# Altium schematic symbol library 10cx105.SchLib: 4 symbols (part 2 of 2)
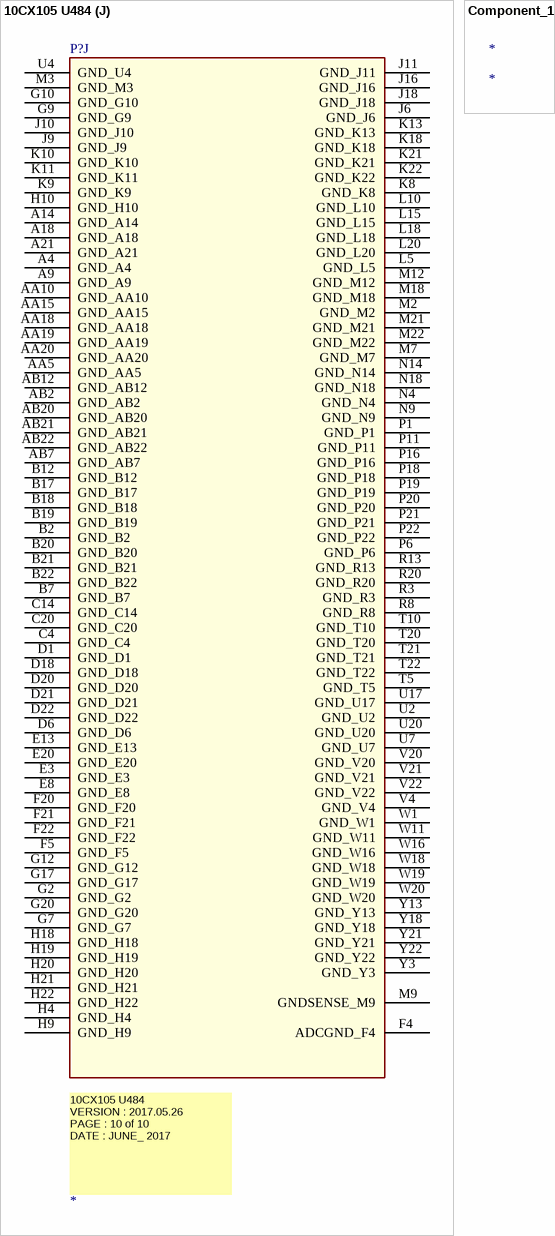
[diagram p12: symbols 10CX105 U484 to Component_1]

## 10CX105 U484
designator P?
SPLIT_INST: TRUE; SWAP_INFO: (S1+S2+S3+S4+S5+S6+S7+S8+S9+S10)
part A pins: C9 VCCIO2L_C9 (power), D11 VCCIO2L_D11 (power), D16 VCCIO2K_D16 (power), F10 VCCIO2L_F10 (power), F15 VCCIO2K_F15 (power), H14 VCCIO2K_H14 (power), J1 VCCIO3B_J1 (power), J8 VCCPT_J8 (power), J12 VCC_J12 (power), J13 VCC_J13 (power), J14 VCCPT_J14 (power), J19 VCCR_GXBL1C_J19 (power), J20 VCCR_GXBL1C_J20 (power), K2 VCCIO3B_K2 (power), K3 VCCIO3B_K3 (power), K6 VCC_K6 (power), K12 VCCP_K12 (power), K14 VCCP_K14 (power), K15 VCC_K15 (power), K16 VCC_K16 (power), L6 VCC_L6 (power), L7 VCC_L7 (power), L8 VCC_L8 (power), L9 VCC_L9 (power), L11 VCC_L11 (power), L12 VCC_L12 (power), L13 VCC_L13 (power), L14 VCC_L14 (power), L16 VCC_L16 (power), L19 VCCH_GXBL_L19 (power), M6 VCC_M6 (power), M8 VCCLSENSE_M8 (power), M10 VCC_M10 (power), M11 VCCA_PLL_M11 (power), M13 VCCA_PLL_M13 (power), M14 VCC_M14 (power), M15 VCC_M15 (power), M16 VCC_M16 (power), N6 VCC_N6 (power), N7 VCC_N7 (power), N8 VCCERAM_N8 (power), N10 VCC_N10 (power), N11 VCC_N11 (power), N12 VCC_N12 (power), N13 VCC_N13 (power), N15 VCCERAM_N15 (power), N16 VCC_N16 (power), N19 VCCT_GXBL1C_N19 (power), N20 VCCT_GXBL1C_N20 (power), P7 VCC_P7 (power), P8 VCC_P8 (power), P9 VCC_P9 (power), P10 VCC_P10 (power), P12 VCCP_P12 (power), P13 VCC_P13 (power), P14 VCCP_P14 (power), P15 VCC_P15 (power), R6 VCC_R6 (power), R7 VCC_R7 (power), R9 VCCPT_R9 (power), R11 VCC_R11 (power), R12 VCC_R12 (power), R14 VCCPT_R14 (power), R15 VCC_R15 (power), R16 VCC_R16 (power), T8 VCCBAT_T8 (power), T9 VCCPGM_T9 (power), T15 VCCIO2J_T15 (power), U9 VCCPGM_U9 (power), U12 VCCIO2J_U12 (power), V9 VCCIO2A_V9 (power), V14 VCCIO2J_V14 (power), W6 VCCIO2A_W6 (power), Y8 VCCIO2A_Y8 (power)
part B pins: A8 IO_2L_28_A8/PLL_2L_CLKOUT1P,PLL_2L_CLKOUT1,PLL_2L_FB1/DQS3 (io), AA16 IO_2J_28_AA16/PLL_2J_CLKOUT1P,PLL_2J_CLKOUT1,PLL_2J_FB1/LVDS2J_10P/DQS19 (io), B8 IO_2L_29_B8/PLL_2L_CLKOUT1N/DQSN3 (io), C2 IO_2L_18_C2/PLL_2L_CLKOUT0P,PLL_2L_CLKOUT0,PLL_2L_FB0/DQ4 (io), C18 IO_2K_29_C18/PLL_2K_CLKOUT1N/LVDS2K_10N/DQSN11 (io), C19 IO_2K_28_C19/PLL_2K_CLKOUT1P,PLL_2K_CLKOUT1,PLL_2K_FB1/LVDS2K_10P/DQS11 (io), D2 IO_2L_19_D2/PLL_2L_CLKOUT0N/DQ4 (io), G18 IO_2K_18_G18/PLL_2K_CLKOUT0P,PLL_2K_CLKOUT0,PLL_2K_FB0/LVDS2K_15P/DQ12 (io), H17 IO_2K_19_H17/PLL_2K_CLKOUT0N/LVDS2K_15N/DQ12 (io), W14 IO_2J_19_W14/PLL_2J_CLKOUT0N/LVDS2J_15N/DQ20 (io), Y14 IO_2J_18_Y14/PLL_2J_CLKOUT0P,PLL_2J_CLKOUT0,PLL_2J_FB0/LVDS2J_15P/DQ20 (io), Y16 IO_2J_29_Y16/PLL_2J_CLKOUT1N/LVDS2J_10N/DQSN19 (io)
part C pins: A1 IO_2L_12_A1/DQ5 (io), A2 IO_2L_13_A2/DQ5 (io), A3 IO_2L_10_A3/DQ6 (io), A5 IO_2L_8_A5/DQS6 (io), A7 IO_2L_27_A7/DQ3 (io), A10 IO_2L_33_A10/DQSN2 (io), A11 IO_2L_32_A11/DQS2 (io), B1 IO_2L_16_B1/DQS5 (io), B3 IO_2L_11_B3/DQ6 (io), B4 IO_2L_9_B4/DQSN6 (io), B5 IO_2L_1_B5/DQ7 (io), B6 IO_2L_5_B6/DQSN7 (io), B9 IO_2L_34_B9/DQ2 (io), C1 IO_2L_17_C1/DQSN5 (io), C5 IO_2L_0_C5/DQ7 (io), C6 IO_2L_4_C6/DQS7 (io), C7 IO_2L_7_C7/DQ6 (io), C8 IO_2L_35_C8/DQ2 (io), C10 IO_2L_31_C10/DQ2 (io), C11 IO_2L_30_C11/DQ2 (io), D7 IO_2L_6_D7/DQ6 (io), D8 IO_2L_46_D8/DQ0 (io), D9 IO_2L_47_D9/DQ0 (io), D10 IO_2L_45_D10/DQSN0 (io), D12 IO_2L_38_D12/DQ1 (io), E1 IO_2L_21_E1/DQSN4 (io), E2 IO_2L_14_E2/DQ5 (io), E7 IO_2L_3_E7/DQ7 (io), E9 IO_2L_40_E9/DQS1 (io), E10 IO_2L_44_E10/DQS0 (io), E11 IO_2L_42_E11/DQ0 (io), E12 IO_2L_39_E12/DQ1 (io), F1 IO_2L_20_F1/DQS4 (io), F2 IO_2L_15_F2/DQ5 (io), F8 IO_2L_2_F8/DQ7 (io), F9 IO_2L_41_F9/DQSN1 (io), F11 IO_2L_43_F11/DQ0 (io), G11 IO_2L_36_G11/DQ1 (io), H11 IO_2L_37_H11/DQ1 (io)
part D pins: A12 IO_2K_6_A12/LVDS2K_21P/DQ14 (io), A13 IO_2K_7_A13/LVDS2K_21N/DQ14 (io), A15 IO_2K_5_A15/LVDS2K_22N/DQSN15 (io), A16 IO_2K_35_A16/LVDS2K_7N/DQ10 (io), A17 IO_2K_34_A17/LVDS2K_7P/DQ10 (io), B13 IO_2K_9_B13/LVDS2K_20N/DQSN14 (io), B14 IO_2K_4_B14/LVDS2K_22P/DQS15 (io), B16 IO_2K_31_B16/LVDS2K_9N/DQ10 (io), C12 IO_2K_2_C12/LVDS2K_23P/DQ15 (io), C13 IO_2K_8_C13/LVDS2K_20P/DQS14 (io), C16 IO_2K_30_C16/LVDS2K_9P/DQ10 (io), C17 IO_2K_33_C17/LVDS2K_8N/DQSN10 (io), D13 IO_2K_3_D13/LVDS2K_23N/DQ15 (io), D14 IO_2K_11_D14/LVDS2K_19N/DQ14 (io), D15 IO_2K_44_D15/LVDS2K_2P/DQS8 (io), D17 IO_2K_32_D17/LVDS2K_8P/DQS10 (io), D19 IO_2K_27_D19/LVDS2K_11N/DQ11 (io), E14 IO_2K_10_E14/LVDS2K_19P/DQ14 (io), E15 IO_2K_45_E15/LVDS2K_2N/DQSN8 (io), E16 IO_2K_43_E16/LVDS2K_3N/DQ8 (io), E17 IO_2K_21_E17/LVDS2K_14N/DQSN12 (io), E18 IO_2K_20_E18/LVDS2K_14P/DQS12 (io), F13 IO_2K_1_F13/LVDS2K_24N/DQ15 (io), F14 IO_2K_39_F14/LVDS2K_5N/DQ9 (io), F16 IO_2K_42_F16/LVDS2K_3P/DQ8 (io), F17 IO_2K_14_F17/LVDS2K_17P/DQ13 (io), F18 IO_2K_15_F18/LVDS2K_17N/DQ13 (io), F19 IO_2K_17_F19/LVDS2K_16N/DQSN13 (io), G13 IO_2K_0_G13/LVDS2K_24P/DQ15 (io), G14 IO_2K_38_G14/LVDS2K_5P/DQ9 (io), G15 IO_2K_47_G15/LVDS2K_1N/DQ8 (io), G16 IO_2K_46_G16/LVDS2K_1P/DQ8 (io), G19 IO_2K_16_G19/LVDS2K_16P/DQS13 (io), H12 IO_2K_36_H12/LVDS2K_6P/DQ9 (io), H13 IO_2K_37_H13/LVDS2K_6N/DQ9 (io), H15 IO_2K_40_H15/LVDS2K_4P/DQS9 (io), H16 IO_2K_41_H16/LVDS2K_4N/DQSN9 (io), L17 IO_2K_12_L17/LVDS2K_18P/DQ13 (io), M17 IO_2K_13_M17/LVDS2K_18N/DQ13 (io)
part E pins: AA11 IO_2J_17_AA11/LVDS2J_16N/DQSN21 (io), AA12 IO_2J_16_AA12/LVDS2J_16P/DQS21 (io), AA13 IO_2J_20_AA13/LVDS2J_14P/DQS20 (io), AA14 IO_2J_13_AA14/LVDS2J_18N/DQ21 (io), AA17 IO_2J_34_AA17/LVDS2J_7P/DQ18 (io), AB13 IO_2J_21_AB13/LVDS2J_14N/DQSN20 (io), AB14 IO_2J_12_AB14/LVDS2J_18P/DQ21 (io), AB16 IO_2J_27_AB16/LVDS2J_11N/DQ19 (io), N17 IO_2J_5_N17/LVDS2J_22N/DQSN23 (io), P17 IO_2J_4_P17/LVDS2J_22P/DQS23 (io), R17 IO_2J_0_R17/LVDS2J_24P/DQ23 (io), R18 IO_2J_8_R18/LVDS2J_20P/DQS22 (io), R19 IO_2J_9_R19/LVDS2J_20N/DQSN22 (io), T14 IO_2J_39_T14/LVDS2J_5N/DQ17 (io), T16 IO_2J_45_T16/LVDS2J_2N/DQSN16 (io), T17 IO_2J_1_T17/LVDS2J_24N/DQ23 (io), T18 IO_2J_11_T18/LVDS2J_19N/DQ22 (io), T19 IO_2J_6_T19/LVDS2J_21P/DQ22 (io), U13 IO_2J_37_U13/LVDS2J_6N/DQ17 (io), U14 IO_2J_36_U14/LVDS2J_6P/DQ17 (io), U15 IO_2J_38_U15/LVDS2J_5P/DQ17 (io), U16 IO_2J_44_U16/LVDS2J_2P/DQS16 (io), U18 IO_2J_10_U18/LVDS2J_19P/DQ22 (io), U19 IO_2J_7_U19/LVDS2J_21N/DQ22 (io), V12 IO_2J_41_V12/LVDS2J_4N/DQSN17 (io), V13 IO_2J_40_V13/LVDS2J_4P/DQS17 (io), V15 IO_2J_30_V15/LVDS2J_9P/DQ18 (io), V16 IO_2J_31_V16/LVDS2J_9N/DQ18 (io), V17 IO_2J_33_V17/LVDS2J_8N/DQSN18 (io), V18 IO_2J_2_V18/LVDS2J_23P/DQ23 (io), V19 IO_2J_3_V19/LVDS2J_23N/DQ23 (io), W10 IO_2J_15_W10/LVDS2J_17N/DQ21 (io), W12 IO_2J_43_W12/LVDS2J_3N/DQ16 (io), W13 IO_2J_42_W13/LVDS2J_3P/DQ16 (io), W17 IO_2J_32_W17/LVDS2J_8P/DQS18 (io), Y10 IO_2J_14_Y10/LVDS2J_17P/DQ21 (io), Y11 IO_2J_47_Y11/LVDS2J_1N/DQ16 (io), Y12 IO_2J_46_Y12/LVDS2J_1P/DQ16 (io), Y17 IO_2J_35_Y17/LVDS2J_7N/DQ18 (io)
part F pins: AB6 IO_2A_12_AB6/LVDS2A_18P/DQ29 (io), AB9 IO_2A_11_AB9/LVDS2A_19N/DQ30 (io), V11 IO_2A_7_V11/LVDS2A_21N/DQ30 (io), Y9 IO_2A_9_Y9/LVDS2A_20N/DQSN30 (io)
part G pins: A6 IO_2L_26_A6/RZQ_2L/DQ3 (io), AB10 IO_2J_22_AB10/CLK_2J_0P/LVDS2J_13P/DQ20 (io), AB11 IO_2J_23_AB11/CLK_2J_0N/LVDS2J_13N/DQ20 (io), AB15 IO_2J_26_AB15/RZQ_2J/LVDS2J_11P/DQ19 (io), B10 IO_2L_24_B10/CLK_2L_1P/DQ3 (io), B11 IO_2L_25_B11/CLK_2L_1N/DQ3 (io), B15 IO_2K_24_B15/CLK_2K_1P/LVDS2K_12P/DQ11 (io), C3 IO_2L_23_C3/CLK_2L_0N/DQ4 (io), C15 IO_2K_25_C15/CLK_2K_1N/LVDS2K_12N/DQ11 (io), D3 IO_2L_22_D3/CLK_2L_0P/DQ4 (io), E19 IO_2K_26_E19/RZQ_2K/LVDS2K_11P/DQ11 (io), F3 VREFN_ADC_F3 (io), F12 VREFB2LN0_2L_F12 (io), G3 VREFP_ADC_G3 (io), H2 VREFB3BN0_3B_H2 (io), J15 VREFB2KN0_2K_J15 (io), J17 IO_2K_22_J17/CLK_2K_0P/LVDS2K_13P/DQ12 (io), K17 IO_2K_23_K17/CLK_2K_0N/LVDS2K_13N/DQ12 (io), T7 VREFB2AN0_2A_T7 (io), T13 VREFB2JN0_2J_T13 (io), W15 IO_2J_25_W15/CLK_2J_1N/LVDS2J_12N/DQ19 (io), Y15 IO_2J_24_Y15/CLK_2J_1P/LVDS2J_12P/DQ19 (io)
part H pins: AA1 IO_2A_34_AA1/DATA13/LVDS2A_7P/DQ26 (io), AA2 IO_2A_27_AA2/NCEO/LVDS2A_11N/DQ27 (io), AA4 IO_2A_21_AA4/DATA24/LVDS2A_14N/DQSN28 (io), AA6 IO_2A_13_AA6/CLKUSR/LVDS2A_18N/DQ29 (io), AA7 IO_2A_43_AA7/DATA4/LVDS2A_3N/DQ24 (io), AA8 IO_2A_42_AA8/DATA5/LVDS2A_3P/DQ24 (io), AB1 IO_2A_35_AB1/DATA12/LVDS2A_7N/DQ26 (io), AB3 IO_2A_20_AB3/DATA25/LVDS2A_14P/DQS28 (io), AB4 IO_2A_15_AB4/DATA30/LVDS2A_17N/DQ29 (io), AB5 IO_2A_14_AB5/DATA31/LVDS2A_17P/DQ29 (io), AB8 IO_2A_10_AB8/NPERSTL0/LVDS2A_19P/DQ30 (io), L1 NSTATUS (io), L2 NCSO2 (io), L3 TMS (io), L4 TRST (io), M1 CONF_DONE (io), M4 TDI (io), M5 TDO (io), N1 NCSO1 (io), N2 AS_DATA1 (io), N3 MSEL1 (io), N5 MSEL2 (io), P2 AS_DATA2 (io), P3 MSEL0 (io), P5 TCK (io), R1 IO_2A_30_R1/DATA17/LVDS2A_9P/DQ26 (io), R2 AS_DATA0,ASDO (io), R5 NCE (io), R10 IO_2A_3_R10/INIT_DONE/LVDS2A_23N/DQ31 (io), T1 IO_2A_31_T1/DATA16/LVDS2A_9N/DQ26 (io), T2 DCLK (io), T3 NIO_PULLUP (io), T6 IO_2A_37_T6/DATA10/LVDS2A_6N/DQ25 (io), T11 IO_2A_2_T11/DEV_OE/LVDS2A_23P/DQ31 (io), T12 IO_2A_5_T12/CVP_CONFDONE/LVDS2A_22N/DQSN31 (io), U1 IO_2A_24_U1/CLK_2A_1P/DATA21/LVDS2A_12P/DQ27 (io), U3 IO_2A_22_U3/CLK_2A_0P/DATA23/LVDS2A_13P/DQ28 (io), U5 NCONFIG (io), U6 IO_2A_36_U6/DATA11/LVDS2A_6P/DQ25 (io), U8 IO_2A_38_U8/DATA9/LVDS2A_5P/DQ25 (io), V1 IO_2A_25_V1/CLK_2A_1N/DATA20/LVDS2A_12N/DQ27 (io), V2 IO_2A_33_V2/DATA14/LVDS2A_8N/DQSN26 (io), V3 IO_2A_23_V3/CLK_2A_0N/DATA22/LVDS2A_13N/DQ28 (io), V5 AS_DATA3 (io), V6 IO_2A_46_V6/DATA1/LVDS2A_1P/DQ24 (io), V7 IO_2A_47_V7/DATA0/LVDS2A_1N/DQ24 (io), V8 IO_2A_39_V8/DATA8/LVDS2A_5N/DQ25 (io), V10 IO_2A_1_V10/CRC_ERROR/LVDS2A_24N/DQ31 (io), W2 IO_2A_32_W2/DATA15/LVDS2A_8P/DQS26 (io), W3 IO_2A_19_W3/PLL_2A_CLKOUT0N/DATA26/LVDS2A_15N/DQ28 (io), W4 IO_2A_18_W4/PLL_2A_CLKOUT0P,PLL_2A_CLKOUT0,PLL_2A_FB0/DATA27/LVDS2A_15P/DQ28 (io), W5 NCSO0 (io), W7 IO_2A_40_W7/DATA7/LVDS2A_4P/DQS25 (io), W8 IO_2A_41_W8/DATA6/LVDS2A_4N/DQSN25 (io), W9 IO_2A_0_W9/DEV_CLRN/LVDS2A_24P/DQ31 (io), Y1 IO_2A_29_Y1/PLL_2A_CLKOUT1N/DATA18/LVDS2A_10N/DQSN27 (io), Y2 IO_2A_28_Y2/PLL_2A_CLKOUT1P,PLL_2A_CLKOUT1,PLL_2A_FB1/DATA19/LVDS2A_10P/DQS27 (io), Y4 IO_2A_16_Y4/DATA29/LVDS2A_16P/DQS29 (io), Y5 IO_2A_17_Y5/DATA28/LVDS2A_16N/DQSN29 (io), Y6 IO_2A_45_Y6/DATA2/LVDS2A_2N/DQSN24 (io), Y7 IO_2A_44_Y7/DATA3/LVDS2A_2P/DQS24 (io)
part I pins: A19 GXBL1C_RX_CH5N,GXBL1C_REFCLK5N_1C_A19 (io), A20 GXBL1C_RX_CH5P,GXBL1C_REFCLK5P_1C_A20 (io), A22 RREF_TL_A22 (io), AA3 NC_AA3 (io), AA9 NC_AA9 (io), AA21 GXBL1C_TX_CH0N_1C_AA21 (io), AA22 GXBL1C_TX_CH0P_1C_AA22 (io), AB17 DNU_AB17 (io), AB18 DNU_AB18 (io), AB19 RREF_BL_AB19 (io), C21 GXBL1C_TX_CH5N_1C_C21 (io), C22 GXBL1C_TX_CH5P_1C_C22 (io), D4 VSIGP_0_D4 (io), D5 VSIGN_0_D5 (io), E4 TEMPDIODEN_E4 (io), E5 TEMPDIODEP_E5 (io), E6 VSIGP_1_E6 (io), E21 GXBL1C_RX_CH4N,GXBL1C_REFCLK4N_1C_E21 (io), E22 GXBL1C_RX_CH4P,GXBL1C_REFCLK4P_1C_E22 (io), F6 NC_F6 (io), F7 VSIGN_1_F7 (io), G1 NC_G1 (io), G4 NC_G4 (io), G5 NC_G5 (io), G6 NC_G6 (io), G8 NC_G8 (io), G21 GXBL1C_TX_CH4N_1C_G21 (io), G22 GXBL1C_TX_CH4P_1C_G22 (io), H1 NC_H1 (io), H3 NC_H3 (io), H5 NC_H5 (io), H6 NC_H6 (io), H7 NC_H7 (io), H8 NC_H8 (io), J2 NC_J2 (io), J3 NC_J3 (io), J4 NC_J4 (io), J5 NC_J5 (io), J7 NC_J7 (io), J21 GXBL1C_RX_CH3N,GXBL1C_REFCLK3N_1C_J21 (io), J22 GXBL1C_RX_CH3P,GXBL1C_REFCLK3P_1C_J22 (io), K1 NC_K1 (io), K4 NC_K4 (io), K5 NC_K5 (io), K7 NC_K7 (io), K19 REFCLK_GXBL1C_CHTN_1C_K19 (io), K20 REFCLK_GXBL1C_CHTP_1C_K20 (io), L21 GXBL1C_TX_CH3N_1C_L21 (io), L22 GXBL1C_TX_CH3P_1C_L22 (io), M19 REFCLK_GXBL1C_CHBN_1C_M19 (io), M20 REFCLK_GXBL1C_CHBP_1C_M20 (io), N21 GXBL1C_RX_CH2N,GXBL1C_REFCLK2N_1C_N21 (io), N22 GXBL1C_RX_CH2P,GXBL1C_REFCLK2P_1C_N22 (io), P4 DNU_P4 (io), R4 DNU_R4 (io), R21 GXBL1C_TX_CH2N_1C_R21 (io), R22 GXBL1C_TX_CH2P_1C_R22 (io), T4 DNU_T4 (io), U10 NC_U10 (io), U11 NC_U11 (io), U21 GXBL1C_RX_CH1N,GXBL1C_REFCLK1N_1C_U21 (io), U22 GXBL1C_RX_CH1P,GXBL1C_REFCLK1P_1C_U22 (io), W21 GXBL1C_TX_CH1N_1C_W21 (io), W22 GXBL1C_TX_CH1P_1C_W22 (io), Y19 GXBL1C_RX_CH0N,GXBL1C_REFCLK0N_1C_Y19 (io), Y20 GXBL1C_RX_CH0P,GXBL1C_REFCLK0P_1C_Y20 (io)
part J pins: A4 GND_A4 (power), A9 GND_A9 (power), A14 GND_A14 (power), A18 GND_A18 (power), A21 GND_A21 (power), AA5 GND_AA5 (power), AA10 GND_AA10 (power), AA15 GND_AA15 (power), AA18 GND_AA18 (power), AA19 GND_AA19 (power), AA20 GND_AA20 (power), AB2 GND_AB2 (power), AB7 GND_AB7 (power), AB12 GND_AB12 (power), AB20 GND_AB20 (power), AB21 GND_AB21 (power), AB22 GND_AB22 (power), B2 GND_B2 (power), B7 GND_B7 (power), B12 GND_B12 (power), B17 GND_B17 (power), B18 GND_B18 (power), B19 GND_B19 (power), B20 GND_B20 (power), B21 GND_B21 (power), B22 GND_B22 (power), C4 GND_C4 (power), C14 GND_C14 (power), C20 GND_C20 (power), D1 GND_D1 (power), D6 GND_D6 (power), D18 GND_D18 (power), D20 GND_D20 (power), D21 GND_D21 (power), D22 GND_D22 (power), E3 GND_E3 (power), E8 GND_E8 (power), E13 GND_E13 (power), E20 GND_E20 (power), F4 ADCGND_F4 (power), F5 GND_F5 (power), F20 GND_F20 (power), F21 GND_F21 (power), F22 GND_F22 (power), G2 GND_G2 (power), G7 GND_G7 (power), G9 GND_G9 (power), G10 GND_G10 (power), G12 GND_G12 (power), G17 GND_G17 (power), G20 GND_G20 (power), H4 GND_H4 (power), H9 GND_H9 (power), H10 GND_H10 (power), H18 GND_H18 (power), H19 GND_H19 (power), H20 GND_H20 (power), H21 GND_H21 (power), H22 GND_H22 (power), J6 GND_J6 (power), J9 GND_J9 (power), J10 GND_J10 (power), J11 GND_J11 (power), J16 GND_J16 (power), J18 GND_J18 (power), K8 GND_K8 (power), K9 GND_K9 (power), K10 GND_K10 (power), K11 GND_K11 (power), K13 GND_K13 (power), K18 GND_K18 (power), K21 GND_K21 (power), K22 GND_K22 (power), L5 GND_L5 (power), L10 GND_L10 (power), L15 GND_L15 (power), L18 GND_L18 (power), L20 GND_L20 (power), M2 GND_M2 (power), M3 GND_M3 (power), M7 GND_M7 (power), M9 GNDSENSE_M9 (power), M12 GND_M12 (power), M18 GND_M18 (power), M21 GND_M21 (power), M22 GND_M22 (power), N4 GND_N4 (power), N9 GND_N9 (power), N14 GND_N14 (power), N18 GND_N18 (power), P1 GND_P1 (power), P6 GND_P6 (power), P11 GND_P11 (power), P16 GND_P16 (power), P18 GND_P18 (power), P19 GND_P19 (power), P20 GND_P20 (power), P21 GND_P21 (power), P22 GND_P22 (power), R3 GND_R3 (power), R8 GND_R8 (power), R13 GND_R13 (power), R20 GND_R20 (power), T5 GND_T5 (power), T10 GND_T10 (power), T20 GND_T20 (power), T21 GND_T21 (power), T22 GND_T22 (power), U2 GND_U2 (power), U4 GND_U4 (power), U7 GND_U7 (power), U17 GND_U17 (power), U20 GND_U20 (power), V4 GND_V4 (power), V20 GND_V20 (power), V21 GND_V21 (power), V22 GND_V22 (power), W1 GND_W1 (power), W11 GND_W11 (power), W16 GND_W16 (power), W18 GND_W18 (power), W19 GND_W19 (power), W20 GND_W20 (power), Y3 GND_Y3 (power), Y13 GND_Y13 (power), Y18 GND_Y18 (power), Y21 GND_Y21 (power), Y22 GND_Y22 (power)
part A text: 10CX105 U484 / VERSION : 2017.05.26 / PAGE : 1 of 10 / DATE : JUNE_ 2017 /
part B text: 10CX105 U484 / VERSION : 2017.05.26 / PAGE : 2 of 10 / DATE : JUNE_ 2017 /
part C text: 10CX105 U484 / VERSION : 2017.05.26 / PAGE : 3 of 10 / DATE : JUNE_ 2017 /
part D text: 10CX105 U484 / VERSION : 2017.05.26 / PAGE : 4 of 10 / DATE : JUNE_ 2017 /
part E text: 10CX105 U484 / VERSION : 2017.05.26 / PAGE : 5 of 10 / DATE : JUNE_ 2017 /
part F text: 10CX105 U484 / VERSION : 2017.05.26 / PAGE : 6 of 10 / DATE : JUNE_ 2017 /
part G text: 10CX105 U484 / VERSION : 2017.05.26 / PAGE : 7 of 10 / DATE : JUNE_ 2017 /
part H text: 10CX105 U484 / VERSION : 2017.05.26 / PAGE : 8 of 10 / DATE : JUNE_ 2017 /
part I text: 10CX105 U484 / VERSION : 2017.05.26 / PAGE : 9 of 10 / DATE : JUNE_ 2017 /
part J text: 10CX105 U484 / VERSION : 2017.05.26 / PAGE : 10 of 10 / DATE : JUNE_ 2017 /

## Component_1
designator *